# EAGLE library part W25Q256JVEIQ_TR (library edrtech_lib)
Ic Flash 256mbit 104mhz 8wson Check availability <https://pricing.snapeda.com/parts/W25Q256JVEIQ%20TR/Winbond/view-part?ref=eda>
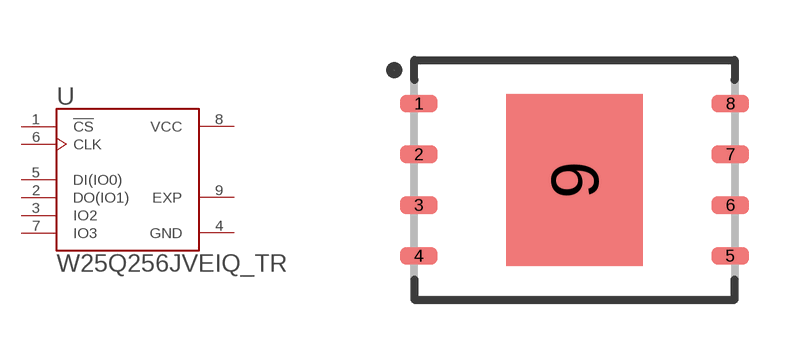
[diagram p7: symbol with the pads of SON127P800X600X80-9N; footprint SON127P800X600X80-9N]

Designator prefix U

## W25Q256JVEIQ_TR (AVAILABILITY: In Stock; DESCRIPTION: FLASH - NOR Memory IC 256Mb (32M x 8) SPI - Quad I/O 133 MHz 8-WSON (8x6); MF: Winbond; MP: W25Q256JVEIQ TR; PACKAGE: WSON-8 Winbond; PRICE: None; PURCHASE-URL: https://pricing.snapeda.com/search/part/W25Q256JVEIQ TR/?ref=eda)  [SON127P800X600X80-9N]
1  !CS  in
2  DO(IO1)
3  IO2
4  GND  pwr
5  DI(IO0)
6  CLK  in
7  IO3
8  VCC  pwr
9  EXP  pwr

## Footprint SON127P800X600X80-9N (pad centres in mm)
smd 0.94 x 0.44: 1 -3.895,1.905; 2 -3.895,0.635; 3 -3.895,-0.635; 4 -3.895,-1.905; 5 3.895,-1.905; 6 3.895,-0.635; 7 3.895,0.635; 8 3.895,1.905
smd 3.4 x 4.3: 9 0,0